# Altium footprint library FootPrintLib_5.PCBLIB: 254 footprints (part 11 of 16)
Each footprint in its own frame and in the unit in brackets; x right, y up, seen from the top. Pads: shape width x height; smd on the part's side, far side on the other; paste and mask are expansions set on the pad; w line width, h text height; cw(c..) or ccw(c..) is an arc to the next point about the centre after c.
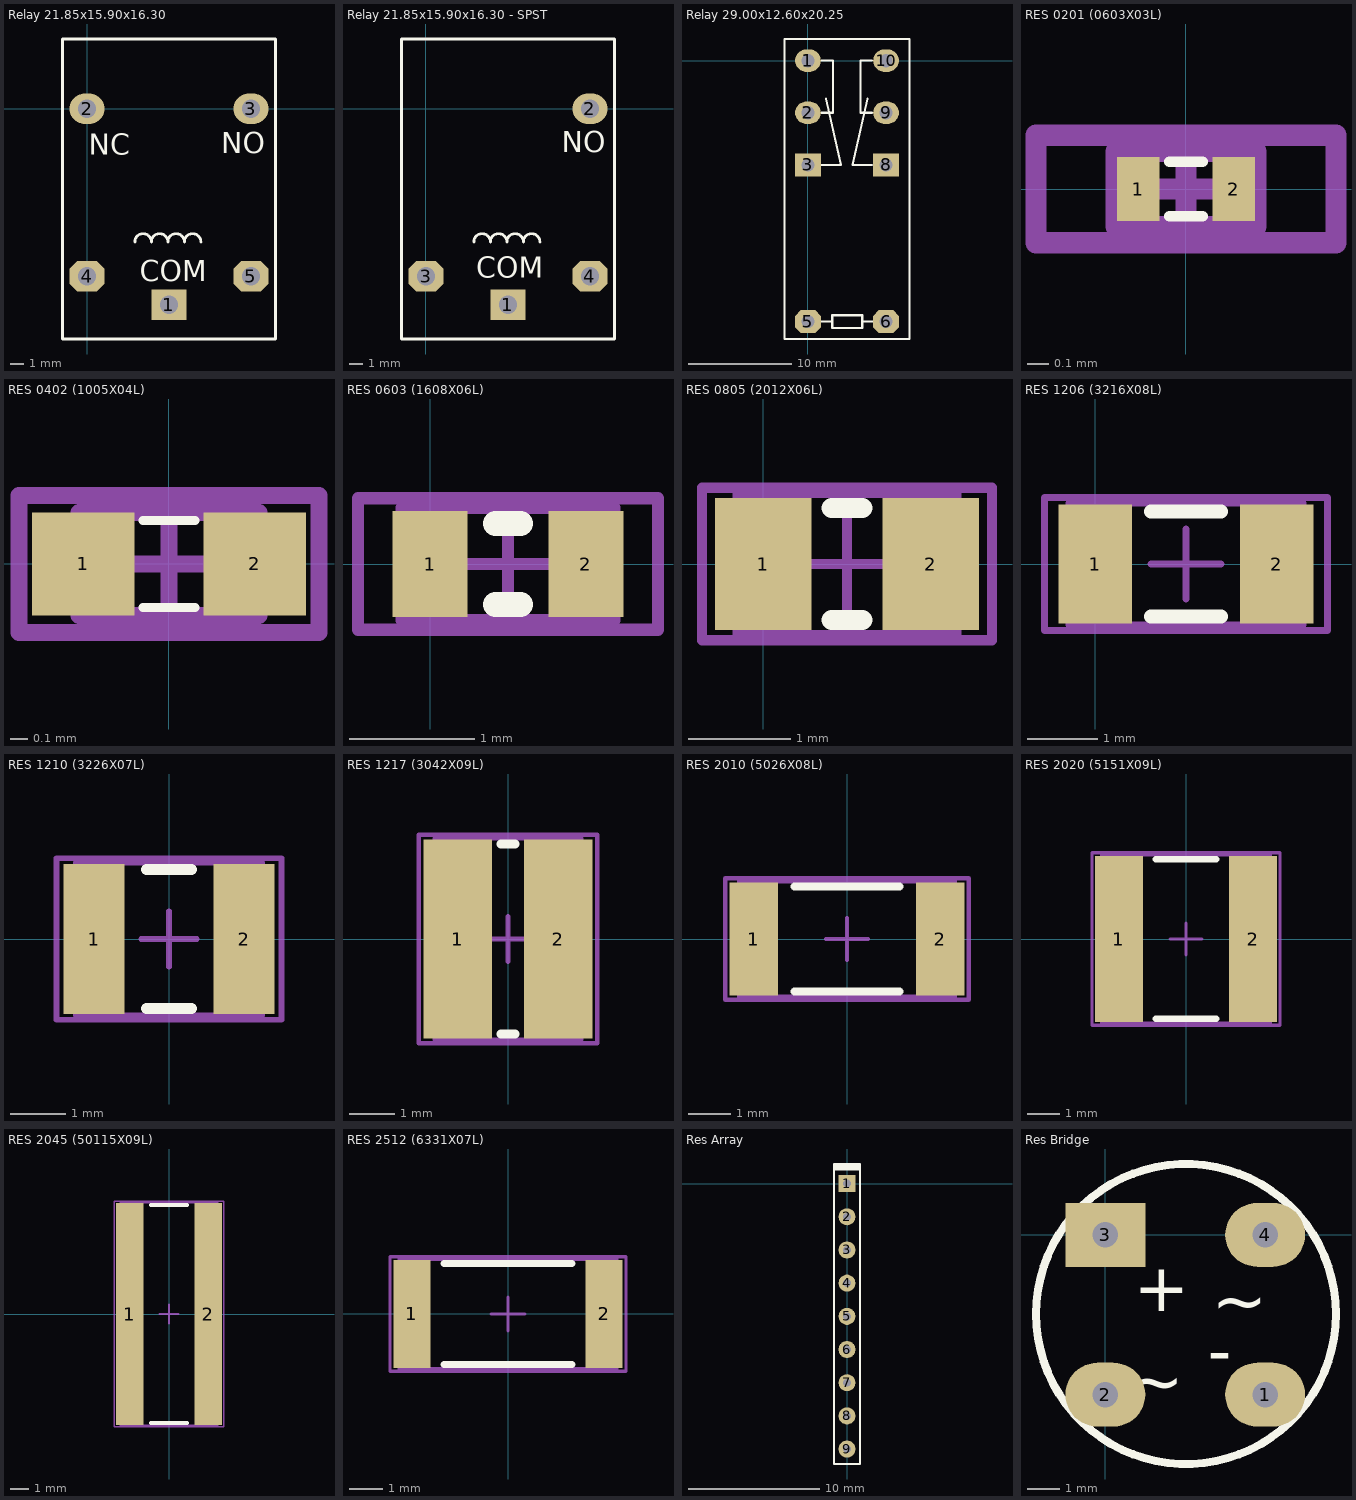
[diagram p10: the footprints below, top view; thin cyan lines are the x and y axes]

## Relay 21.85x15.90x16.30 [mm]
height 16.3
pads (5):
  rect 2.5x2.2 hole 1.3: 1(5.875,-14.05)
  oval 2.5x2.2 hole 1.3: 2(0,0) 3(11.75,0)
  oct 2.5x2.2 hole 1.3: 4(0,-12) 5(11.75,-12)
Top Overlay:
  lines w0.2: 3.43,-9.54 cw(c4.021,-9.54) 4.612,-9.54 cw(c5.203,-9.54) 5.794,-9.54 cw(c6.385,-9.54) 6.976,-9.54 cw(c7.567,-9.54) 8.158,-9.54 ; -1.75,-16.5 -1.75,5 13.5,5 13.5,-16.5 -1.75,-16.5
  text "COM" at 3.785,-12.344 h1.5
  text "NO" at 9.627,-3.175 h1.5
  text "NC" at 0.127,-3.302 h1.5

## Relay 21.85x15.90x16.30 - SPST [mm]
height 16.3
pads (4):
  rect 2.5x2.2 hole 1.3: 1(5.885,-14.04)
  oval 2.5x2.2 hole 1.3: 2(11.76,0.01)
  oct 2.5x2.2 hole 1.3: 3(0.01,-11.99) 4(11.76,-11.99)
Top Overlay:
  lines w0.2: 3.44,-9.53 cw(c4.031,-9.53) 4.622,-9.53 cw(c5.213,-9.53) 5.804,-9.53 cw(c6.395,-9.53) 6.986,-9.53 cw(c7.577,-9.53) 8.168,-9.53 ; -1.74,-16.49 -1.74,5.01 13.51,5.01 13.51,-16.49 -1.74,-16.49
  text "COM" at 3.607,-12.09 h1.5
  text "NO" at 9.754,-3.099 h1.5

## Relay 29.00x12.60x20.25 [mm]
height 20.25
pads (8):
  oval 2.5x2.2 hole 1.3: 1(0,0) 2(0,-5.08) 9(7.6,-5.08) 10(7.6,0)
  rect 2.5x2.2 hole 1.3: 3(0,-10.16) 8(7.6,-10.16)
  oct 2.5x2.2 hole 1.3: 5(0,-25.4) 6(7.6,-25.4)
Top Overlay:
  lines w0.2: 1.32,-25.4 2.364,-25.4 ; 1.32,-10.16 3.195,-10.16 1.752,-3.708 ; 1.32,-5.08 2.42,-5.08 2.42,0 1.32,0 ; 5.282,-25.4 6.324,-25.4 ; 5.786,-3.708 4.343,-10.16 6.218,-10.16 ; 6.22,-5.08 5.12,-5.08 5.12,0 6.22,0 ; -2.3,-27.1 -2.3,2.1 9.9,2.1 9.9,-27.1 -2.3,-27.1 ; 2.364,-26.01 5.282,-26.01 5.282,-24.79 2.364,-24.79 2.364,-26.01

## RES 0201 (0603X03L) [mm] "Chip Resistor, 2-Leads, Body 0.6x0.3mm, IPC High Density (0.05 W)"
height 0.3
pads (2):
  rect 0.2x0.3 smd: 1(-0.223,0) 2(0.223,0)
Top Overlay:
  lines w0.051: -0.076,-0.127 0.076,-0.127 ; -0.076,0.127 0.076,0.127
Mechanical 13:
  lines w0.1: -0.325,-0.175 -0.325,0.175 0.325,0.175 0.325,-0.175 -0.325,-0.175
Mechanical 15:
  lines w0.1: -0.175,0 0.175,0 ; 0,-0.175 0,0.175 ; -0.7,-0.25 -0.7,0.25 0.7,0.25 0.7,-0.25 -0.7,-0.25
3D body "0201.STEP": height 0.25, standoff 0, extent -0.254,-0.127 0.254,0.127

## RES 0402 (1005X04L) [mm] "Chip Resistor, 2-Leads, Body 1.0x0.5mm, IPC High Density _ (0.031/0.063 W)"
height 0.4
pads (2):
  rect 0.6x0.6 smd: 1(-0.5,0) 2(0.5,0)
Top Overlay:
  lines w0.051: -0.152,-0.254 0.152,-0.254 ; -0.152,0.254 0.152,0.254
Mechanical 13:
  lines w0.1: -0.525,-0.3 0.525,-0.3 0.525,0.3 -0.525,0.3 -0.525,-0.3
Mechanical 15:
  lines w0.1: -0.3,0 0.3,0 ; 0,-0.3 0,0.3 ; -0.875,-0.4 0.875,-0.4 0.875,0.4 -0.875,0.4 -0.875,-0.4
3D body "0402.STEP": height 0.35, standoff 0, extent -0.508,-0.254 0.508,0.254

## RES 0603 (1608X06L) [mm] "Chip Resistor, 2-Leads, Body 1.6x0.8mm, IPC High Density _ (0.063W)"
height 0.6
pads (2):
  rect 0.6x0.85 smd: 1(0,0) 2(1.244,0)
Top Overlay:
  lines w0.2: 0.522,-0.325 0.722,-0.325 ; 0.522,0.325 0.722,0.325
Mechanical 13:
  lines w0.1: -0.228,-0.45 1.472,-0.45 1.472,0.45 -0.228,0.45 -0.228,-0.45
Mechanical 15:
  lines w0.1: 0.172,0 1.072,0 ; 0.622,-0.45 0.622,0.45 ; -0.578,-0.525 1.822,-0.525 1.822,0.525 -0.578,0.525 -0.578,-0.525
3D body "0603.STEP": height 0.45, standoff 0, extent -0.14,-0.381 1.384,0.381

## RES 0805 (2012X06L) [mm] "Chip Resistor, 2-Leads, Body 2.0x1.3mm, IPC High Density _ (0.100 W)"
height 0.65
pads (2):
  rect 0.95x1.3 smd: 1(0,0) 2(1.65,0)
Top Overlay:
  lines w0.2: 0.675,-0.55 0.975,-0.55 ; 0.675,0.55 0.975,0.55
Mechanical 13:
  lines w0.1: -0.25,-0.7 -0.25,0.7 1.9,0.7 1.9,-0.7 -0.25,-0.7
Mechanical 15:
  lines w0.1: 0.325,0 1.325,0 ; 0.825,-0.5 0.825,0.5 ; -0.6,-0.75 -0.6,0.75 2.25,0.75 2.25,-0.75 -0.6,-0.75
3D body "0805.STEP": height 0.6, standoff 0, extent -0.191,-0.635 1.841,0.635

## RES 1206 (3216X08L) [mm] "Chip Resistor, 2-Leads, Body 3.2x1.6mm, IPC High Density _ (0.125 W)"
height 0.75
pads (2):
  rect 1.05x1.7 smd: 1(0,0) 2(2.596,0)
Top Overlay:
  lines w0.2: 0.798,-0.75 1.798,-0.75 ; 0.798,0.75 1.798,0.75
Mechanical 13:
  lines w0.1: -0.377,-0.875 -0.377,0.875 2.973,0.875 2.973,-0.875 -0.377,-0.875
Mechanical 15:
  lines w0.1: 0.798,0 1.798,0 ; 1.298,-0.5 1.298,0.5 ; -0.727,-0.95 -0.727,0.95 3.323,0.95 3.323,-0.95 -0.727,-0.95
3D body "1206.STEP": height 0.6, standoff 0, extent -0.226,-0.762 2.822,0.762

## RES 1210 (3226X07L) [mm] "Chip Resistor, 2-Leads, Body 3.2x2.6mm, IPC High Density _ (0.250 W)"
height 0.7
pads (2):
  rect 1.1x2.7 smd: 1(-1.35,0) 2(1.35,0)
Top Overlay:
  lines w0.2: -0.4,-1.25 0.4,-1.25 ; -0.4,1.25 0.4,1.25
Mechanical 13:
  lines w0.1: -1.675,-1.375 1.675,-1.375 1.675,1.375 -1.675,1.375 -1.675,-1.375
Mechanical 15:
  lines w0.1: -0.5,0 0.5,0 ; 0,-0.5 0,0.5 ; -2.025,-1.45 2.025,-1.45 2.025,1.45 -2.025,1.45 -2.025,-1.45
3D body "1210.STEP": height 0.6, standoff 0, extent -1.524,-1.27 1.524,1.27

## RES 1217 (3042X09L) [mm] "Chip Resistor, 2-Leads, Body 3.0x4.2mm, IPC High Density _ (0.250 W)"
height 0.9
pads (2):
  rect 1.5x4.35 smd: 1(-1.1,0) 2(1.1,0)
Top Overlay:
  lines w0.2: -0.15,-2.075 0.15,-2.075 ; -0.15,2.075 0.15,2.075
Mechanical 13:
  lines w0.1: -1.6,-2.2 -1.6,2.2 1.6,2.2 1.6,-2.2 -1.6,-2.2
Mechanical 15:
  lines w0.1: -0.5,0 0.5,0 ; 0,-0.5 0,0.5 ; -1.95,-2.275 -1.95,2.275 1.95,2.275 1.95,-2.275 -1.95,-2.275
3D body "1217.STEP": height 0.9, standoff 0, extent -1.524,-2.159 1.524,2.159

## RES 2010 (5026X08L) [mm] "Chip Resistor, 2-Leads, Body 5.0x2.6mm, IPC High Density _ (0.250 W)"
height 0.8
pads (2):
  rect 1.15x2.7 smd: 1(-2.225,0) 2(2.225,0)
Top Overlay:
  lines w0.2: -1.25,-1.25 1.25,-1.25 ; -1.25,1.25 1.25,1.25
Mechanical 13:
  lines w0.1: -2.575,-1.375 2.575,-1.375 2.575,1.375 -2.575,1.375 -2.575,-1.375
Mechanical 15:
  lines w0.1: -0.5,0 0.5,0 ; 0,-0.5 0,0.5 ; -2.9,-1.45 2.9,-1.45 2.9,1.45 -2.9,1.45 -2.9,-1.45
3D body "2010.STEP": height 0.6, standoff 0, extent -2.54,-1.27 2.54,1.27

## RES 2020 (5151X09L) [mm] "Chip Resistor, 2-Leads, Body 5.1x5.1mm, IPC High Density _ (0.5 W)"
height 0.9
pads (2):
  rect 1.5x5.2 smd: 1(-2.1,0) 2(2.1,0)
Top Overlay:
  lines w0.2: -0.95,-2.5 0.95,-2.5 ; -0.95,2.5 0.95,2.5
Mechanical 13:
  lines w0.1: -2.64,-2.64 2.64,-2.64 2.64,2.64 -2.64,2.64 -2.64,-2.64
Mechanical 15:
  lines w0.1: -0.5,0 0.5,0 ; 0,-0.5 0,0.5 ; -2.95,-2.7 2.95,-2.7 2.95,2.7 -2.95,2.7 -2.95,-2.7
3D body "2020.STEP": height 0.9, standoff 0, extent -2.54,-2.54 2.54,2.54

## RES 2045 (50115X09L) [mm] "Chip Resistor, 2-Leads, Body 5.0x11.5mm, IPC High Density _ (1.0 W)"
height 0.9
pads (2):
  rect 1.45x11.75 smd: 1(-2.075,0) 2(2.075,0)
Top Overlay:
  lines w0.2: -0.95,-5.775 0.95,-5.775 ; -0.95,5.775 0.95,5.775
Mechanical 13:
  lines w0.1: -2.575,-5.9 2.575,-5.9 2.575,5.9 -2.575,5.9 -2.575,-5.9
Mechanical 15:
  lines w0.1: -0.5,0 0.5,0 ; 0,-0.5 0,0.5 ; -2.9,-5.975 2.9,-5.975 2.9,5.975 -2.9,5.975 -2.9,-5.975
3D body "2045.STEP": height 0.9, standoff 0, extent -2.54,-5.715 2.54,5.715

## RES 2512 (6331X07L) [mm] "Chip Resistor, 2-Leads, Body 6.3x3.1mm, IPC High Density _ (0.500 W)"
height 0.7
pads (2):
  rect 1.1x3.2 smd: 1(-2.85,0) 2(2.85,0)
Top Overlay:
  lines w0.2: -1.9,-1.5 1.9,-1.5 ; -1.9,1.5 1.9,1.5
Mechanical 13:
  lines w0.1: -3.225,-1.625 3.225,-1.625 3.225,1.625 -3.225,1.625 -3.225,-1.625
Mechanical 15:
  lines w0.1: -0.5,0 0.5,0 ; 0,-0.5 0,0.5 ; -3.5,-1.7 3.5,-1.7 3.5,1.7 -3.5,1.7 -3.5,-1.7
3D body "2512.STEP": height 0.6, standoff 0, extent -3.175,-1.524 3.175,1.524

## Res Array [mm]
pads (9):
  rect 1.3x1.3 hole 0.6: 1(0,0)
  round 1.3 hole 0.6: 2(0,-2.54) 3(0,-5.08) 4(0,-7.62) 5(0,-10.16) 6(0,-12.7) 7(0,-15.24) 8(0,-17.78) 9(0,-20.32)
Top Overlay:
  rectangle: -1,1 1,1.5
  lines w0.178: -1,-21.463 -1,1.5 1,1.5 1,-21.463 -1,-21.463
3D body "SW3dPS-80015102.step": height 5.4, standoff -3.1, extent -0.625,-21.375 0.625,1.125

## Res Bridge [mm]
pads (4):
  oval 2.5x2 hole 0.8: 1(5,-5) 2(0,-5) 4(5,0)
  rect 2.5x2 hole 0.8: 3(0,0)
Top Overlay:
  circle w0.254: c2.523,-2.477 r4.695
  text "+" at 0.889,-2.388 h1.52
  text "-" at 3.2,-4.369 h1.52
  text "~" at 3.327,-2.794 h1.52
  text "~" at 0.711,-5.319 h1.52